# Altium integrated library Power.IntLib: 11 symbols
Pins are listed as number, name and electrical type; pins without a type are passive.

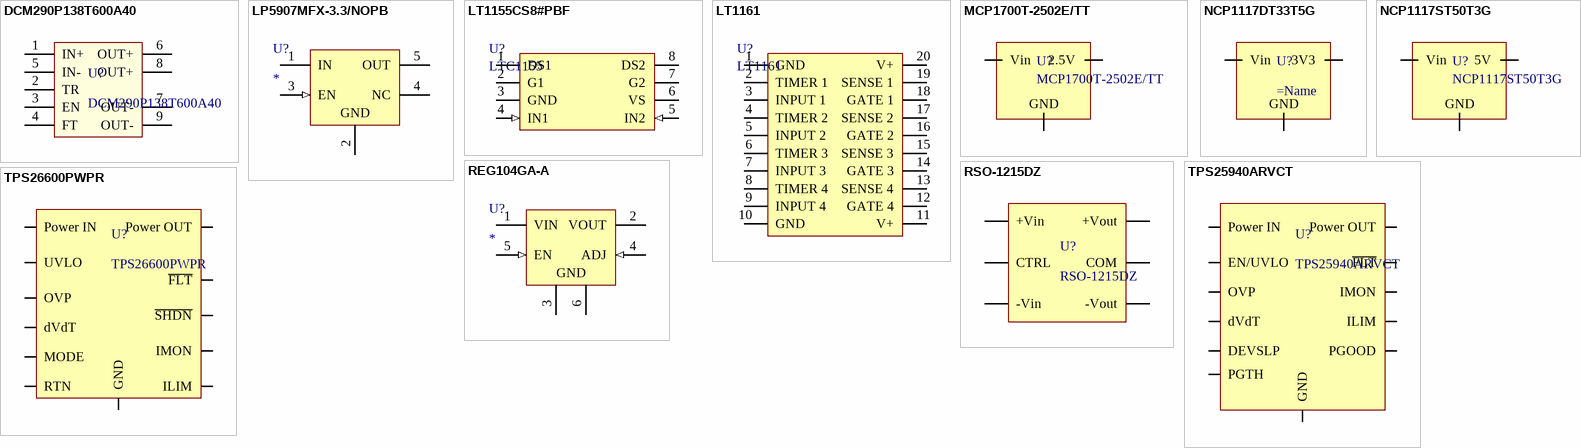
[diagram p0: symbols DCM290P138T600A40 to TPS26600PWPR]

## DCM290P138T600A40
designator U?
Isolated Module DC DC Converter 1 Output 13.8V 43.5A 160V - 420V Input; ComponentLink1Description: Datasheet; ComponentLink1URL: https://www.vicorpower.com/documents/datasheets/ds_DCM290y138x600A40.pdf
footprint DCM290P138T600A40 (Vicor DC/DC converter)
pins: 1 IN+ (power), 2 TR (power), 3 EN (power), 4 FT (power), 5 IN- (power), 6 OUT+ (power), 7 OUT- (power), 8 OUT+ (power), 9 OUT- (power)

## LP5907MFX-3.3/NOPB
designator U?
250-mA ultra-low-noise low-IQ low-dropout (LDO) linear regulator 5-SOT-23 -40 to 125; Manufacturer: Texas Instruments; Manufacturer Part Number: LP5907MFX-3.3/NOPB; Output Voltage: 3.3V; Number of Outputs: 1; Min Input Voltage: 2.2V; Max Input Voltage: 5.5V; Max Output Current: 250mA; Dropout Voltage: 250mV; Polarity: Positive; Quiescent Current: 425uA; Accuracy: 2%; Power Supply Rejection Ratio (PSRR): 82dB; Output Type: Fixed; Supplier 1: Digi-Key; RoHS: Yes; Category: Voltage Regulators - Linear; Stock 1: 258521; Pricing 1: 1=0.54000, 10=0.46100, 25=0.43040, 100=0.31980, 250=0.27060, 500=0.25830, 1000=0.19065 (USD); Mount: Surface Mount; Case/Package: SOT-23; Number of Pins: 5; Contact Plating: Tin; Min Operating Temperature: -40°C; Max Operating Temperature: 125°C; Packaging: Tape and Reel; Output Current: 250mA; Package Quantity: 3000; Number of Regulators: 1; Nominal Output Voltage: 3.3V; Output Voltage Accuracy: 2%; Radiation Hardening: No; REACH SVHC: No SVHC; Lead Free: Lead Free; ComponentLink1URL: https://datasheet.ciiva.com/15083/lp5907-15083592.pdf?src-supplier=Digi-Key; ComponentLink1Description: https://datasheet.ciiva.com/15083/lp5907-15083592.pdf?src-supplier=Digi-Key; ComponentLink2URL: https://datasheet.ciiva.com/48475/lp5907-48475084.pdf?src-supplier=Avnet; ComponentLink2Description: https://datasheet.ciiva.com/48475/lp5907-48475084.pdf?src-supplier=Avnet; Supplier Part Number 1: 296-38557-1-ND
footprint SOT-23-5 (SOT23, 5-Leads, Body 3.05x1.75mm, Pitch 0.95mm, IPC Low Density)
pins: 1 IN (power) "Input voltage supply. A 1-uF capacitor should be connected at this input.", 2 GND (power) "Common ground", 3 EN (in) "Enable input. A low voltage (< VIL) on this pin turns the regulator off and discharges the output pin to GND through an internal 230-Ohm pulldown resistor. A high voltage (> VIH) on this pin enables the regulator output. (See Datasheet)", 4 NC "No internal electrical connection.", 5 OUT (power) "Regulated output voltage. A minimum 1-uF low-ESR capacitor should be connected to this pin. Connect this output to the load circuit. An internal 230-Ohm (typical) pulldown resistor prevents a charge remaining on VOUT when (See Datasheet)"

## LT1155CS8#PBF
designator U?, comment LTC1155
High-Side Gate Driver IC Non-Inverting 8-SO; Name: LT1155CS8#PBF; ComponentLink1Description: Datasheet; ComponentLink1URL: https://www.analog.com/media/en/technical-documentation/data-sheets/LTC1155.pdf; ComponentLink2Description: Digikey; ComponentLink2URL: https://www.digikey.com/en/products/detail/analog-devices-inc/LTC1155CS8-PBF/890432
footprint SOIC-8 (SOIC, 8-Leads, Body 4.90x3.90mm, Pitch 1.27mm, IPC Medium Density)
pins: 1 DS1, 2 G1, 3 GND (power), 4 IN1 (in), 5 IN2 (in), 6 VS (power), 7 G2, 8 DS2
1 alternate drawing of the same symbol

## LT1161
designator U?
IC GATE DRVR HIGH-SIDE 20SOIC; Name: LT1161; ComponentLink1Description: Datasheet; ComponentLink1URL: https://www.analog.com/media/en/technical-documentation/data-sheets/1161fa.pdf; ComponentLink2Description: Digikey; ComponentLink2URL: https://www.digikey.com/product-detail/en/linear-technology-analog-devices/LT1161ISW-PBF/LT1161ISW-PBF-ND/888528
footprint SO-20 (LT1161ISWPBF)
pins: 1 GND, 2 TIMER 1, 3 INPUT 1, 4 TIMER 2, 5 INPUT 2, 6 TIMER 3, 7 INPUT 3, 8 TIMER 4, 9 INPUT 4, 10 GND, 11 V+, 12 GATE 4, 13 SENSE 4, 14 GATE 3, 15 SENSE 3, 16 GATE 2, 17 SENSE 2, 18 GATE 1, 19 SENSE 1, 20 V+
1 alternate drawing of the same symbol

## MCP1700T-2502E/TT
designator U?
Linear Voltage Regulator IC  1 Output  250mA SOT-23-3; Vout: 2.5; Name: MCP1700T-2502E/TT; Type: Linear fixed; ComponentLink1Description: Digikey; ComponentLink1URL: https://www.digikey.com/en/products/detail/microchip-technology/MCP1700T-2502E-TT/651111; ComponentLink2Description: Datasheet; ComponentLink2URL: https://ww1.microchip.com/downloads/en/DeviceDoc/MCP1700-Low-Quiescent-Current-LDO-20001826E.pdf
footprint SOT23-3 (SOT23, 3-Leads, Body 2.92x2.37mm, Pitch 0.95mm, IPC Medium Density, NUP2105L)
pins: 1 GND, 2 2.5V, 3 Vin

## NCP1117DT33T5G
designator U?
IC REG LINEAR 3.3V 1A DPAK
footprint DPAK3_TO-252-3 (D-PAK, 3-Pads, Body 6.21x6.73mm (max), IPC Medium Density)
pins: 1 GND, 3 Vin, 4 3V3

## NCP1117ST50T3G
designator U?
IC REG LINEAR 5V 1A SOT223; Vout: 5; Name: NCP1117ST50T3G; Type: Linear fixed; ComponentLink1Description: Digikey; ComponentLink1URL: https://www.digikey.com/product-detail/en/on-semiconductor/NCP1117ST50T3G/NCP1117ST50T3GOSCT-ND/1967217; ComponentLink2Description: Datasheet; ComponentLink2URL: https://www.onsemi.com/pub/Collateral/NCP1117-D.PDF
footprint SOT-233-4 (SOT223, 4-Leads, Body 6.50x7.00mm (avg), Pitch 2.30mm, IPC Medium Density)
pins: 1 GND, 2 5V, 3 Vin, 4 Tab

## REG104GA-A
designator U?
IC REG LIN POS ADJ 1A SOT223-6; Manufacturer: Texas Instruments; Manufacturer Part Number: REG104GA-A; Output Voltage: 5.5V; Dropout Voltage: 230mV; Number of Outputs: 1; Max Input Voltage: 15V; Min Input Voltage: 2.1V; Input Bias Current: 600uA; Reference Voltage: 1.295V; Min Output Voltage: 1.3V; Polarity: Positive; Accuracy: 2%; Output Type: Adjustable; Min Current Limit: 1.2A; Supplier 1: Digi-Key; RoHS: Yes; Category: Voltage Regulators - Linear; Stock 1: 1379; Pricing 1: 1=6.52000, 10=5.85500, 25=5.53520, 100=4.55100, 250=4.08360, 500=3.93600, 1000=3.27180 (USD); Case/Package: SOT-223; Number of Pins: 6; Contact Plating: Gold; Number of Terminals: 6; Min Operating Temperature: -40°C; Max Operating Temperature: 85°C; Package Quantity: 78; Packaging: Rail/Tube; Output Current: 1A; Max Output Current: 1A; Max Output Voltage: 5.5V; Quiescent Current: 600uA; Output Voltage Accuracy: 2%; Number of Regulators: 1; Length: 6.5mm; Height: 1.6mm; Width: 3.5mm; Radiation Hardening: No; Lead Free: Lead Free; REACH SVHC: No SVHC; ComponentLink1URL: https://datasheet.ciiva.com/2046/reg104-25-2046656.pdf?src-supplier=Digi-Key; ComponentLink1Description: https://datasheet.ciiva.com/2046/reg104-25-2046656.pdf?src-supplier=Digi-Key; ComponentLink2URL: https://datasheet.ciiva.com/27050/909020-27050855.pdf?src-supplier=Jameco; ComponentLink2Description: https://datasheet.ciiva.com/27050/909020-27050855.pdf?src-supplier=Jameco; ComponentLink3URL: https://datasheet.ciiva.com/26907/reg104ga-a-26907602.pdf?src-supplier=IIIC; ComponentLink3Description: https://datasheet.ciiva.com/26907/reg104ga-a-26907602.pdf?src-supplier=IIIC; ComponentLink4URL: https://datasheet.ciiva.com/25975/sbvs025g-25975686.pdf?src-supplier=Avnet+Europe; ComponentLink4Description: https://datasheet.ciiva.com/25975/sbvs025g-25975686.pdf?src-supplier=Avnet+Europe; ComponentLink5URL: https://datasheet.ciiva.com/3224/reg104-a-3224168.pdf?src-supplier=Avnet; ComponentLink5Description: https://datasheet.ciiva.com/3224/reg104-a-3224168.pdf?src-supplier=Avnet; Supplier Part Number 1: REG104GA-A-ND
footprint SOT-223-6 (SOT223, 6-Leads, Body 6.55x3.55mm, Pitch 1.27mm, IPC Low Density)
pins: 1 VIN (power), 2 VOUT (power), 3 GND (power), 4 ADJ (in), 5 EN (in), 6 GND (power)

## RSO-1215DZ
designator U?
Isolated Module DC DC Converter 2 Output 15V -15V 34mA, 34mA 4.5V - 18V Input; Vout: +/- 15; Min Voltage: 4.5; Max Voltage: 18; ComponentLink1Description: Digikey; ComponentLink1URL: https://www.digikey.com/en/products/detail/recom-power/RSO-1215DZ-H3/2662805; ComponentLink2Description: Datasheet; ComponentLink2URL: https://recom-power.com/pdf/Econoline/RSO.pdf
footprint RECOM_RSO
pins: 1 -Vin, 2 +Vin, 3 CTRL, 6 +Vout, 7 COM, 8 -Vout

## TPS25940ARVCT
designator U?
Electronic Fuse Regulator - 5.3A 20-WQFN (4x3); ComponentLink1Description: Digikey; ComponentLink1URL: https://www.digikey.com/en/products/detail/texas-instruments/TPS25940ARVCT/4915501; ComponentLink2Description: Datasheet; ComponentLink2URL: https://www.ti.com/lit/ds/symlink/tps25940-q1.pdf?HQS=dis-dk-null-digikeymode-dsf-pf-null-wwe&ts=1620322949788
footprint 20-WFQFN Exposed Pad (QFN, 20-Leads, Body 3.00x4.00mm, Pitch 0.50mm, Thermal Pad 1.60x2.60mm, IPC Medium Density)
pins: 1 DEVSLP, 2 PGOOD, 3 PGTH, 4 Power OUT, 5 Power OUT, 6 Power OUT, 7 Power OUT, 8 Power OUT, 9 Power IN, 10 Power IN, 11 Power IN, 12 Power IN, 13 Power IN, 14 EN/UVLO, 15 OVP, 16 GND, 17 ILIM, 18 dVdT, 19 IMON, 20 ~{FLT}, 21 GND

## TPS26600PWPR
designator U?
Electronic Fuse Regulator  2.35A 16-HTSSOP; ComponentLink1Description: Digikey; ComponentLink1URL: https://www.digikey.com/en/products/detail/texas-instruments/TPS26600PWPR/6199305; ComponentLink2Description: Datasheet; ComponentLink2URL: https://www.ti.com/lit/ds/symlink/tps2660.pdf
footprint TSSOP-16_ThermalPad (TSOP, 16-Leads, Body 5.00x4.40mm, Pitch 0.65mm, Thermal Pad 2.46x2.66mm, IPC Medium Density)
pins: 1 Power IN, 2, 3 UVLO, 5 OVP, 6 MODE, 7 ~{SHDN}, 8 RTN, 9 GND, 10 IMON, 11 ILIM, 12 dVdT, 14 ~{FLT}, 15 Power OUT, 16 Power OUT, 17 GND